# Altium schematic symbol library MGZ.SchLib: 1 symbol
Pins are listed as number, name and electrical type; pins without a type are passive.

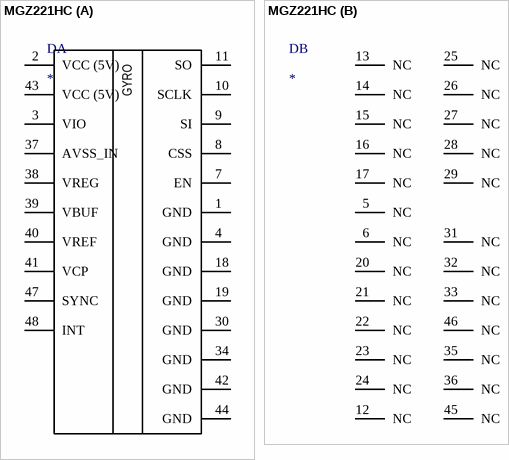
[diagram p0: symbol MGZ221HC]

## MGZ221HC
designator D
MGZ33X/22X is a single-axis
footprint LCC48L (LCC, 48-Pins, Body 11,00x11,00mmx1,50mm, Pitch 0,80mm, IPC High Density)
part A pins: 1 GND, 2 VCC (5V), 3 VIO, 4 GND, 7 EN, 8 CSS, 9 SI, 10 SCLK, 11 SO, 18 GND, 19 GND, 30 GND, 34 GND, 37 AVSS_IN, 38 VREG, 39 VBUF, 40 VREF, 41 VCP, 42 GND, 43 VCC (5V), 44 GND, 47 SYNC, 48 INT
part B pins: 5 NC, 6 NC, 12 NC, 13 NC, 14 NC, 15 NC, 16 NC, 17 NC, 20 NC, 21 NC, 22 NC, 23 NC, 24 NC, 25 NC, 26 NC, 27 NC, 28 NC, 29 NC, 31 NC, 32 NC, 33 NC, 35 NC, 36 NC, 45 NC, 46 NC
part A text: GYRO